# EAGLE library part LMK1C1104PWR (library LMK1C1104PWR)
Clock Buffer 4 Channel Output LVCMOS 1.8V Buffer 8-TSSOP -40 to 125 Source: Datasheet <https://www.ti.com/lit/gpn/LMK1C1104>
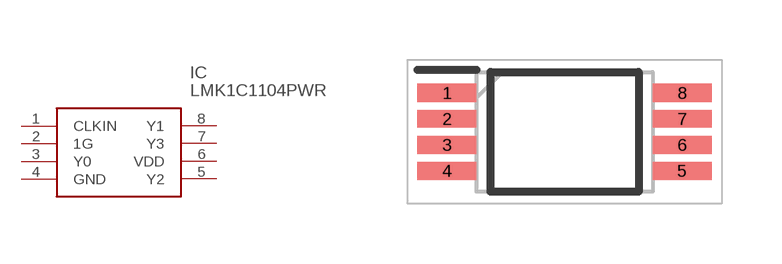
[diagram p0: symbol with the pads of SOP65P640X120-8N; footprint SOP65P640X120-8N]

Designator prefix IC

## LMK1C1104PWR (Arrow_Part_Number: LMK1C1104PWR; Arrow_Price-Stock: https://www.arrow.com/en/products/lmk1c1104pwr/texas-instruments?utm_currency=USD&region=nac; Description: Clock Buffer 4 Channel Output LVCMOS 1.8V Buffer 8-TSSOP -40 to 125; Height: 1.2mm; Manufacturer_Name: Texas Instruments; Manufacturer_Part_Number: LMK1C1104PWR; Mouser_Part_Number: 595-LMK1C1104PWR; Mouser_Price-Stock: https://www.mouser.co.uk/ProductDetail/Texas-Instruments/LMK1C1104PWR?qs=xZ%2FP%252Ba9zWqZKsBQFHYffew%3D%3D)  [SOP65P640X120-8N]
1  CLKIN
2  1G
3  Y0
4  GND
5  Y2
6  VDD
7  Y3
8  Y1

## Footprint SOP65P640X120-8N (pad centres in mm)
PW0008A
smd 1.475 x 0.45: 1 -2.938,0.975; 2 -2.938,0.325; 3 -2.938,-0.325; 4 -2.938,-0.975; 5 2.938,-0.975; 6 2.938,-0.325; 7 2.938,0.325; 8 2.938,0.975